# EAGLE library part R-VAR-ST (library _common)
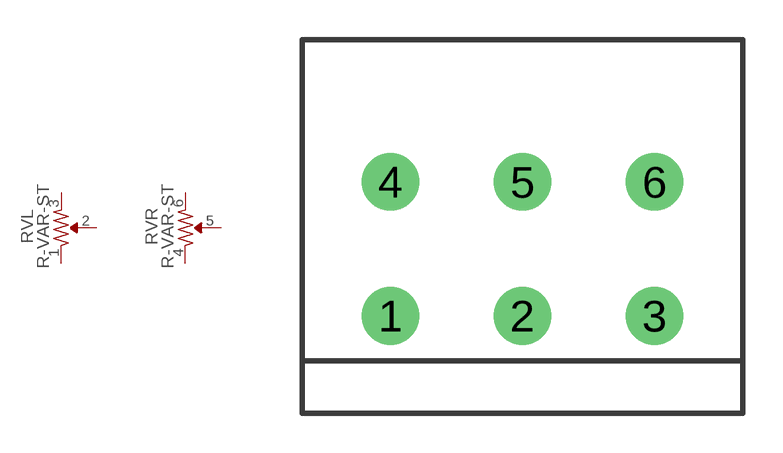
[diagram p7: symbol with the pads of _COMMON_3RP/1610G; footprint _COMMON_3RP/1610G]

Designator prefix RV; gates L=R-VAR-US R=R-VAR-US

## R-VAR-ST  [_COMMON_3RP/1610G]
1  L:1  pas
2  L:2  pas
3  L:3  pas
4  R:1  pas
5  R:2  pas
6  R:3  pas

## Footprint _COMMON_3RP/1610G (pad centres in mm)
Generic single level pot.
drill 1.2 pad 2.184: 1 -5,0; 2 0,0; 3 5,0; 4 -5,5.08; 5 0,5.08; 6 5,5.08